# Altium integrated library Gennum Video SMPTE.IntLib: 7 symbols
Pins are listed as number, name and electrical type; pins without a type are passive.

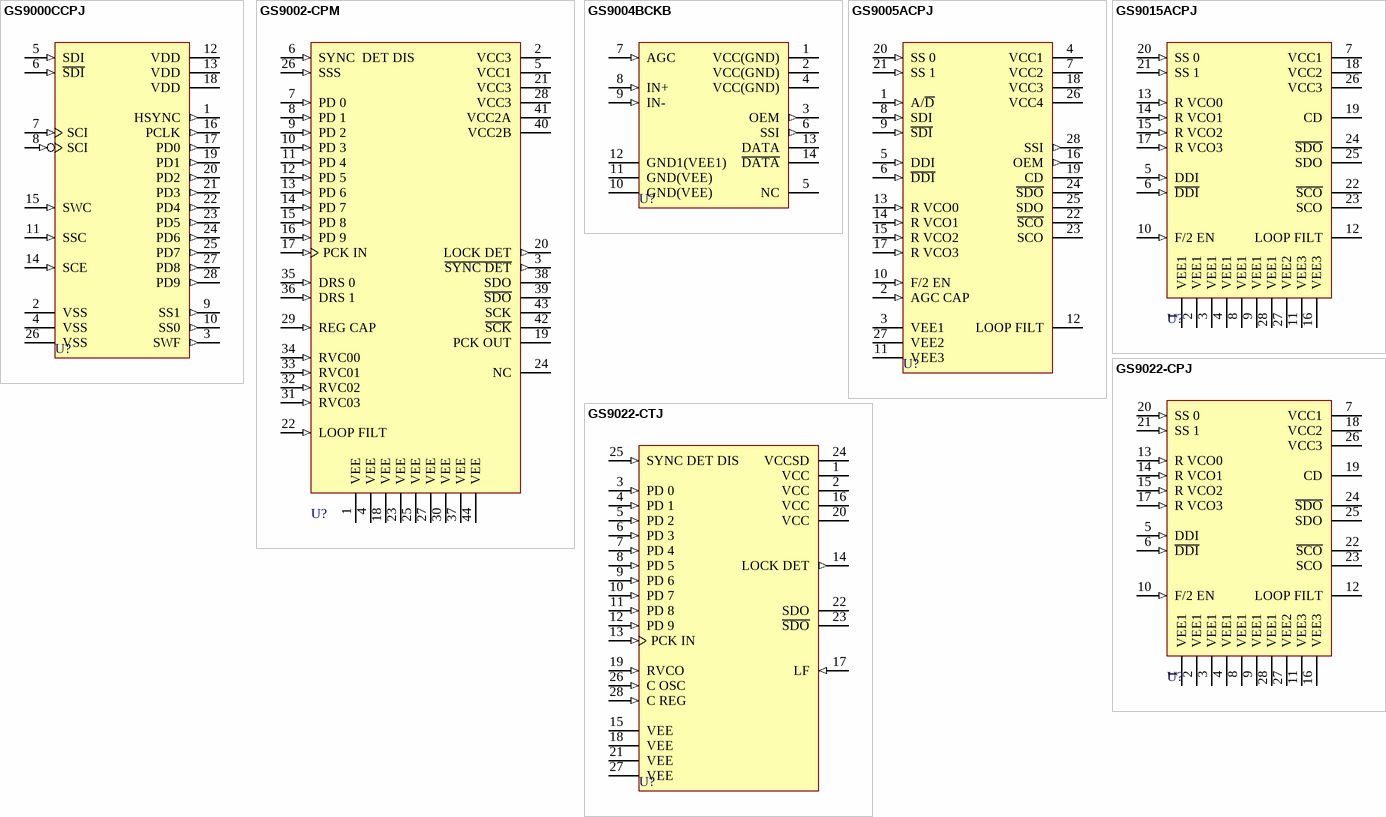
[diagram p0: symbols GS9000CCPJ to GS9022-CTJ]

## GS9000CCPJ
designator U?
Serial Digital Decoder; Published: 8-Jun-2000; LatestRevisionDate: 13-Apr-2006; LatestRevisionNote: IPC-7351 Footprint Added.; DatasheetVersion: Aug-1999; PackageReference: PLCC28; Publisher: Altium Limited; PackageDescription: 28-Pin Leaded Chip Carrier 1.27 mm Pitch; Code_IPC: PLCC-28; ComponentLink1Description: Manufacturer Link; ComponentLink1URL: http://www.gennum.com/index.html
footprint PLCC28_N (Leaded Chip Carrier, 28-Leads, Body 11.5x11.5mm, Pitch 1.27mm, IPC Medium Density)
footprint PLCC28_L (Leaded Chip Carrier, 28-Leads, Body 11.5x11.5mm, Pitch 1.27mm, IPC High Density)
footprint PLCC28_M (Leaded Chip Carrier, 28-Leads, Body 11.5x11.5mm, Pitch 1.27mm, IPC Low Density)
3D model GS9000-PLCC28 (28-Pin Leaded Chip Carrier 1.27 mm Pitch)
pins: 1 HSYNC (out), 2 VSS (power), 3 SWF (out), 4 VSS (power), 5 SDI (in), 6 ~{SDI} (in), 7 SCI (in), 8 SCI (in), 9 SS1 (out), 10 SS0 (out), 11 SSC (in), 12 VDD (power), 13 VDD (power), 14 SCE (in), 15 SWC (in), 16 PCLK (out), 17 PD0 (out), 18 VDD (power), 19 PD1 (out), 20 PD2 (out), 21 PD3 (out), 22 PD4 (out), 23 PD5 (out), 24 PD6 (out), 25 PD7 (out), 26 VSS (power), 27 PD8 (out), 28 PD9 (out)

## GS9002-CPM
designator U?
Serial Digital Encoder; Published: 8-Jun-2000; LatestRevisionDate: 13-Apr-2006; LatestRevisionNote: IPC-7351 Footprint Added.; DatasheetVersion: Aug-1997; PackageReference: PLCC44; Publisher: Altium Limited; PackageDescription: 44-Pin Leaded Chip Carrier 1.27 mm Pitch; Code_IPC: PLCC-44; ComponentLink1Description: Manufacturer Link; ComponentLink1URL: http://www.gennum.com/index.html; ComponentLink2Description: Datasheet; ComponentLink2URL: http://www.gennum.com/vb/pdffiles/52027DOC.pdf
footprint PLCC44_N (Leaded Chip Carrier, 44-Leads, Body 16.6x16.6mm, Pitch 1.27mm, IPC Medium Density)
footprint PLCC44_L (Leaded Chip Carrier, 44-Leads, Body 16.6x16.6mm, Pitch 1.27mm, IPC High Density)
footprint PLCC44_M (Leaded Chip Carrier, 44-Leads, Body 16.6x16.6mm, Pitch 1.27mm, IPC Low Density)
3D model GS9002-PLCC44 (44-Pin Leaded Chip Carrier 1.27 mm Pitch)
pins: 1 VEE (power), 2 VCC3 (power), 3 ~{SYNC DET} (out), 4 VEE (power), 5 VCC1 (power), 6 SYNC  DET DIS (in), 7 PD 0 (in), 8 PD 1 (in), 9 PD 2 (in), 10 PD 3 (in), 11 PD 4 (in), 12 PD 5 (in), 13 PD 6 (in), 14 PD 7 (in), 15 PD 8 (in), 16 PD 9 (in), 17 PCK IN (in), 18 VEE (power), 19 PCK OUT (oe), 20 LOCK DET (out), 21 VCC3 (power), 22 LOOP FILT (in), 23 VEE (power), 24 NC, 25 VEE (power), 26 SSS (in), 27 VEE (power), 28 VCC3 (power), 29 REG CAP (in), 30 VEE (power), 31 RVC03 (in), 32 RVC02 (in), 33 RVC01 (in), 34 RVC00 (in), 35 DRS 0 (in), 36 DRS 1 (in), 37 VEE (power), 38 SDO (oe), 39 ~{SDO} (oe), 40 VCC2B (power), 41 VCC2A (power), 42 ~{SCK} (oe), 43 SCK (oe), 44 VEE (power)

## GS9004BCKB
designator U?
Serial Digital Cable Equalizer; Note: Pin 5 is No Connection; Published: 8-Jun-2000; LatestRevisionDate: 13-Apr-2006; LatestRevisionNote: IPC-7351 Footprint Added.; PackageReference: SOIC14; Publisher: Altium Limited; PackageDescription: 14-Pin Small Outline Integrated Circuit 1.27 mm Pitch; Code_JEDEC: MS-012-AB; Code_IPC: SOIC127P600-14; ComponentLink1Description: Manufacturer Link; ComponentLink1URL: http://www.gennum.com/index.html
footprint SOIC14_N (SOIC, 14-Leads, Body 8.7x3.9mm, Pitch 1.27mm, IPC Medium Density)
footprint SOIC14_L (SOIC, 14-Leads, Body 8.7x3.9mm, Pitch 1.27mm, IPC High Density)
footprint SOIC14_M (SOIC, 14-Leads, Body 8.7x3.9mm, Pitch 1.27mm, IPC Low Density)
3D model SOIC14 (14-Pin Small Outline Integrated Circuit 1.27 mm Pitch)
pins: 1 VCC(GND) (power), 2 VCC(GND) (power), 3 OEM (out), 4 VCC(GND) (power), 5 NC, 6 SSI (out), 7 AGC (in), 8 IN+ (in), 9 IN- (in), 10 GND(VEE) (power), 11 GND(VEE) (power), 12 GND1(VEE1) (power), 13 DATA (oe), 14 ~{DATA} (oe)

## GS9005ACPJ
designator U?
Serial Digital Receiver; Published: 8-Jun-2000; LatestRevisionDate: 13-Apr-2006; LatestRevisionNote: IPC-7351 Footprint Added.; DatasheetVersion: Aug-1997; PackageReference: PLCC28; Publisher: Altium Limited; PackageDescription: 28-Pin Leaded Chip Carrier 1.27 mm Pitch; Code_IPC: PLCC-28; ComponentLink1Description: Manufacturer Link; ComponentLink1URL: http://www.gennum.com/index.html; ComponentLink2Description: Datasheet; ComponentLink2URL: http://www.gennum.com/vb/pdffiles/52028DOC.pdf
footprint PLCC28_N (Leaded Chip Carrier, 28-Leads, Body 11.5x11.5mm, Pitch 1.27mm, IPC Medium Density)
footprint PLCC28_L (Leaded Chip Carrier, 28-Leads, Body 11.5x11.5mm, Pitch 1.27mm, IPC High Density)
footprint PLCC28_M (Leaded Chip Carrier, 28-Leads, Body 11.5x11.5mm, Pitch 1.27mm, IPC Low Density)
3D model GS9005-PLCC28 (28-Pin Leaded Chip Carrier 1.27 mm Pitch)
pins: 1 A/~{D} (in), 2 AGC CAP (in), 3 VEE1 (power), 4 VCC1 (power), 5 DDI (in), 6 ~{DDI} (in), 7 VCC2 (power), 8 SDI (in), 9 ~{SDI} (in), 10 F/2 EN (in), 11 VEE3 (power), 12 LOOP FILT, 13 R VCO0 (in), 14 R VCO1 (in), 15 R VCO2 (in), 16 OEM (out), 17 R VCO3 (in), 18 VCC3 (power), 19 CD (oc), 20 SS 0 (in), 21 SS 1 (in), 22 ~{SCO} (oe), 23 SCO (oe), 24 ~{SDO} (oe), 25 SDO (oe), 26 VCC4 (power), 27 VEE2 (power), 28 SSI (out)

## GS9015ACPJ
designator U?
Serial Digital Reclocker; ComponentAvailability: Not for New Design; Published: 8-Jun-2000; LatestRevisionDate: 13-Apr-2006; LatestRevisionNote: IPC-7351 Footprint Added.; DatasheetVersion: Apr-1998; PackageReference: PLCC28; Publisher: Altium Limited; PackageDescription: 28-Pin Leaded Chip Carrier 1.27 mm Pitch; Code_IPC: PLCC-28; ComponentLink1Description: Manufacturer Link; ComponentLink1URL: http://www.gennum.com/index.html; ComponentLink2Description: Datasheet; ComponentLink2URL: http://www.gennum.com/vb/pdffiles/52099DOC.pdf
footprint PLCC28_N (Leaded Chip Carrier, 28-Leads, Body 11.5x11.5mm, Pitch 1.27mm, IPC Medium Density)
footprint PLCC28_L (Leaded Chip Carrier, 28-Leads, Body 11.5x11.5mm, Pitch 1.27mm, IPC High Density)
footprint PLCC28_M (Leaded Chip Carrier, 28-Leads, Body 11.5x11.5mm, Pitch 1.27mm, IPC Low Density)
3D model GS9015-PLCC28 (28-Pin Leaded Chip Carrier 1.27 mm Pitch)
pins: 1 VEE1 (power), 2 VEE1 (power), 3 VEE1 (power), 4 VEE1 (power), 5 DDI (in), 6 ~{DDI} (in), 7 VCC1 (power), 8 VEE1 (power), 9 VEE1 (power), 10 F/2 EN (in), 11 VEE3 (power), 12 LOOP FILT, 13 R VCO0 (in), 14 R VCO1 (in), 15 R VCO2 (in), 16 VEE3 (power), 17 R VCO3 (in), 18 VCC2 (power), 19 CD (oc), 20 SS 0 (in), 21 SS 1 (in), 22 ~{SCO} (oe), 23 SCO (oe), 24 ~{SDO} (oe), 25 SDO (oe), 26 VCC3 (power), 27 VEE2 (power), 28 VEE1 (power)

## GS9022-CPJ
designator U?
Digital Video Serializer; ComponentAvailability: Not for New Design; Published: 8-Jun-2000; LatestRevisionDate: 13-Apr-2006; LatestRevisionNote: IPC-7351 Footprint Added.; DatasheetVersion: Aug-1997; PackageReference: PLCC28; Publisher: Altium Limited; PackageDescription: 28-Pin Leaded Chip Carrier 1.27 mm Pitch; Code_IPC: PLCC-28; ComponentLink1Description: Manufacturer Link; ComponentLink1URL: http://www.gennum.com/index.html; ComponentLink2Description: Datasheet; ComponentLink2URL: http://www.gennum.com/vb/pdffiles/18325DOC.pdf
footprint PLCC28_N (Leaded Chip Carrier, 28-Leads, Body 11.5x11.5mm, Pitch 1.27mm, IPC Medium Density)
footprint PLCC28_L (Leaded Chip Carrier, 28-Leads, Body 11.5x11.5mm, Pitch 1.27mm, IPC High Density)
footprint PLCC28_M (Leaded Chip Carrier, 28-Leads, Body 11.5x11.5mm, Pitch 1.27mm, IPC Low Density)
3D model GS9022-PLCC28 (28-Pin Leaded Chip Carrier 1.27 mm Pitch)
pins: 1 VEE1 (power), 2 VEE1 (power), 3 VEE1 (power), 4 VEE1 (power), 5 DDI (in), 6 ~{DDI} (in), 7 VCC1 (power), 8 VEE1 (power), 9 VEE1 (power), 10 F/2 EN (in), 11 VEE3 (power), 12 LOOP FILT, 13 R VCO0 (in), 14 R VCO1 (in), 15 R VCO2 (in), 16 VEE3 (power), 17 R VCO3 (in), 18 VCC2 (power), 19 CD (oc), 20 SS 0 (in), 21 SS 1 (in), 22 ~{SCO} (oe), 23 SCO (oe), 24 ~{SDO} (oe), 25 SDO (oe), 26 VCC3 (power), 27 VEE2 (power), 28 VEE1 (power)

## GS9022-CTJ
designator U?
Digital Video Serializer; ComponentAvailability: Not for New Design; Published: 8-Jun-2000; LatestRevisionDate: 13-Apr-2006; LatestRevisionNote: IPC-7351 Footprint Added.; DatasheetVersion: Aug-1997; PackageReference: PLCC28T; Publisher: Altium Limited; PackageDescription: 28-Pin Leaded Chip Carrier 1.27 mm Pitch; Code_IPC: PLCC-28; ComponentLink1Description: Manufacturer Link; ComponentLink1URL: http://www.gennum.com/index.html; ComponentLink2Description: Datasheet; ComponentLink2URL: http://www.gennum.com/vb/pdffiles/18325DOC.pdf
footprint PLCC28T_N (Leaded Chip Carrier, 28-Leads, Body 11.5x11.5mm, Pitch 1.27mm, IPC Medium Density)
footprint PLCC28T_L (Leaded Chip Carrier, 28-Leads, Body 11.5x11.5mm, Pitch 1.27mm, IPC High Density)
footprint PLCC28T_M (Leaded Chip Carrier, 28-Leads, Body 11.5x11.5mm, Pitch 1.27mm, IPC Low Density)
3D model GS9022-PLCC28 (28-Pin Leaded Chip Carrier 1.27 mm Pitch)
pins: 1 VCC (power), 2 VCC (power), 3 PD 0 (in), 4 PD 1 (in), 5 PD 2 (in), 6 PD 3 (in), 7 PD 4 (in), 8 PD 5 (in), 9 PD 6 (in), 10 PD 7 (in), 11 PD 8 (in), 12 PD 9 (in), 13 PCK IN (in), 14 LOCK DET (out), 15 VEE (power), 16 VCC (power), 17 LF (in), 18 VEE (power), 19 RVCO (in), 20 VCC (power), 21 VEE (power), 22 SDO (oe), 23 ~{SDO} (oe), 24 VCCSD (power), 25 SYNC DET DIS (in), 26 C OSC (in), 27 VEE (power), 28 C REG (in)